# Altium integrated library National Semiconductor MiscPower.IntLib: 1552 symbols (part 10 of 43)
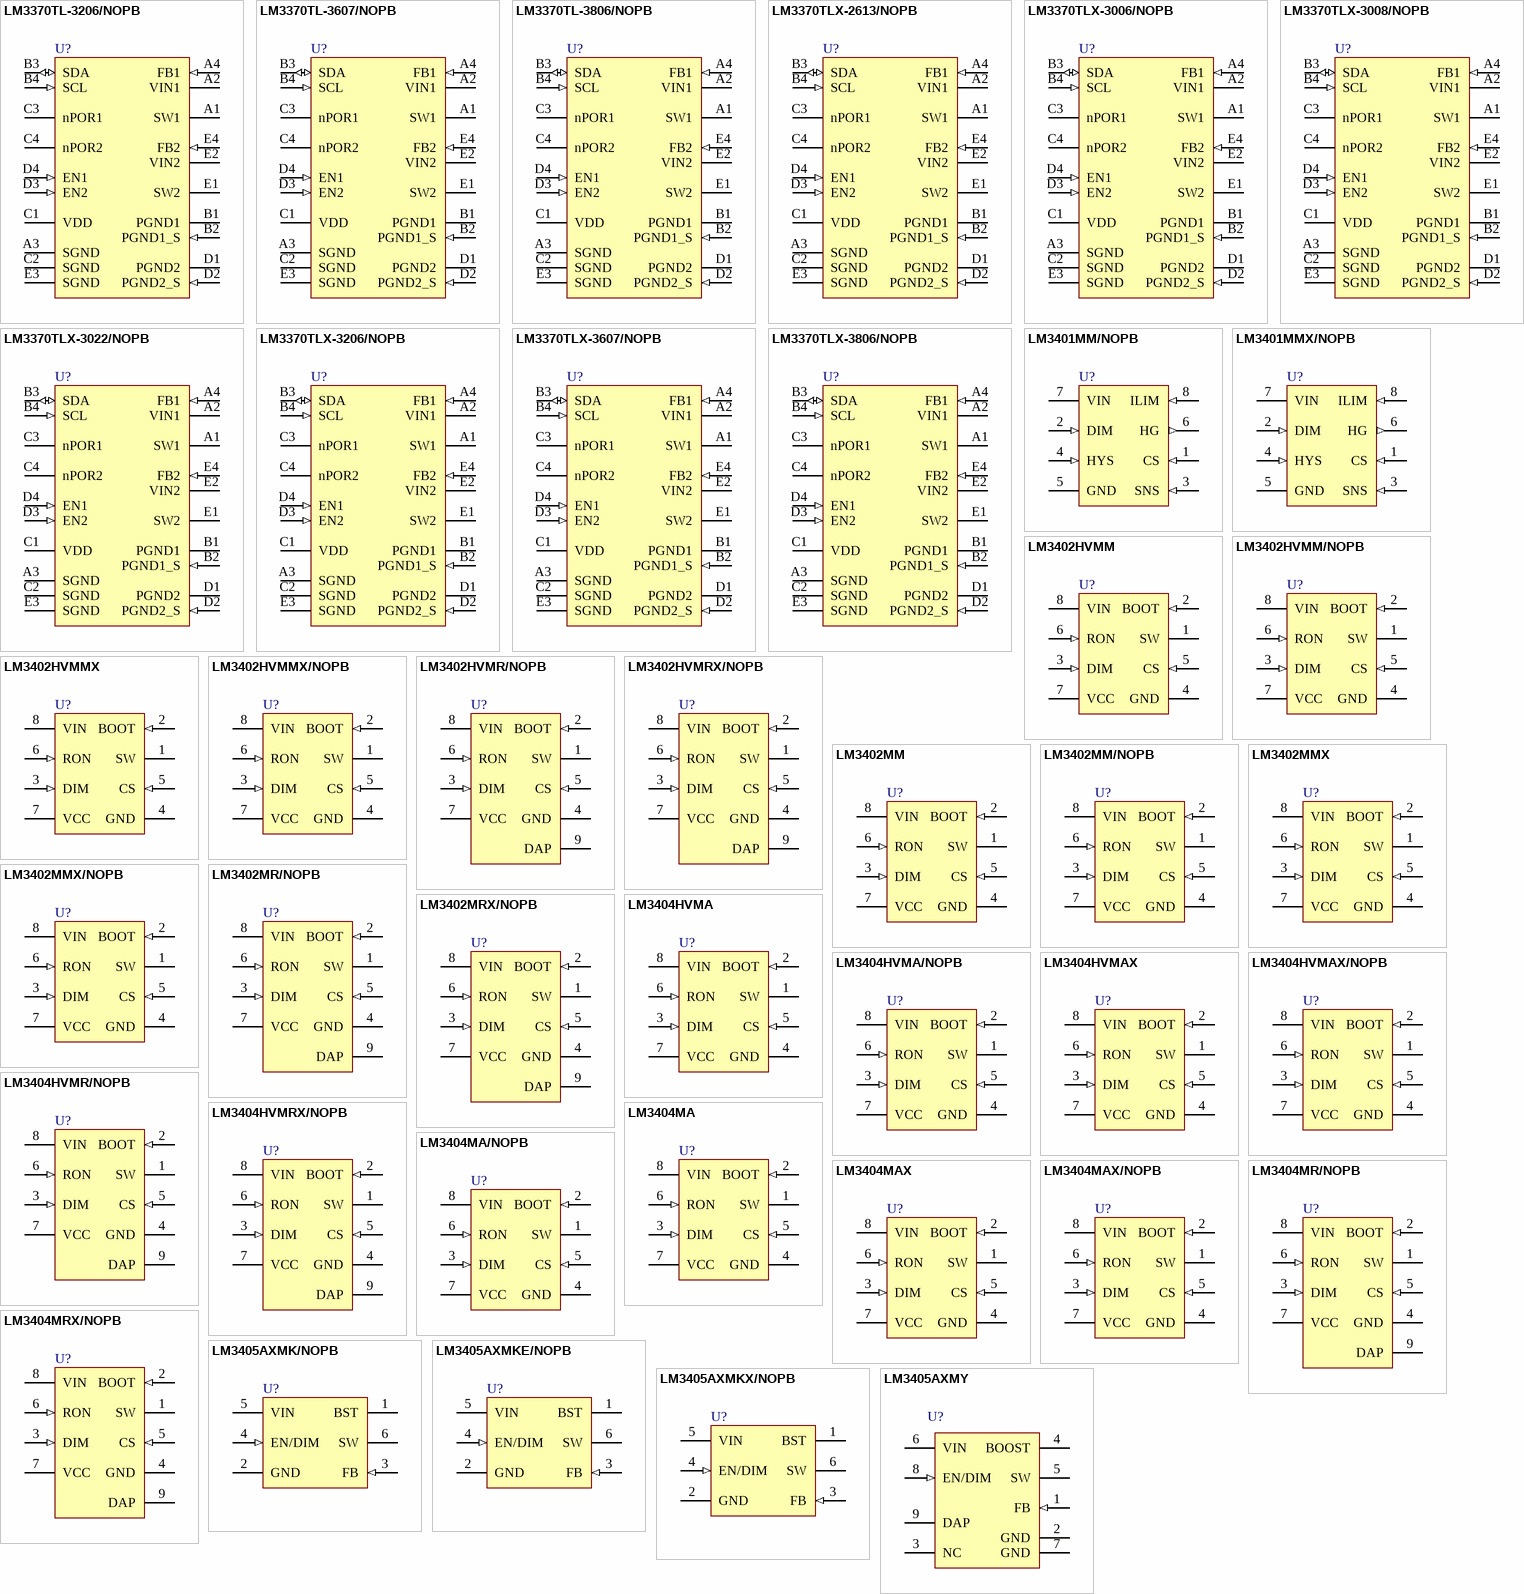
[diagram p66: symbols LM3370TL-3206/NOPB to LM3405AXMY]

## LM3402MMX
designator U?
0.5A Constant Current Buck Regulator for High Power LED Drivers, 8-pin MSOP; PartNumber: LM3402MMX; Manufacturer: National Semiconductor; PackageTopMarking: ZXTT*SNEB; PowerWise: Y; CompType: MiscPower; DatasheetVersion: Jun-2007; PackageVersion: revF, Apr-2008; PackageReference: MUA08A; PackageDescription: MINI SOIC, .118 x .118 x .034in, 8 Lead, .0256in Pitch; RoHS: N; PinCount: 8; High-Reliability: Y; Code_JEDEC: MO-187-AA; ComponentLink1Description: Manufacturer URL; ComponentLink1URL: http://www.national.com/; ComponentLink2Description: LM3402 Datasheet; ComponentLink2URL: http://www.national.com/ds/LM/LM3402.pdf; ComponentLink3Description: LM3402 Web Page; ComponentLink3URL: http://www.national.com/pf/LM/LM3402.html; ComponentLink4Description: MUA08A Package Page; ComponentLink4URL: http://www.national.com/packaging/folders/mua08a.html
footprint MUA08A_N (TSOP, 8-Leads, Body 3x3mm, Pitch 0.65mm, IPC Medium Density)
footprint MUA08A_L (TSOP, 8-Leads, Body 3x3mm, Pitch 0.65mm, IPC High Density)
footprint MUA08A_M (TSOP, 8-Leads, Body 3x3mm, Pitch 0.65mm, IPC Low Density)
pins: 1 SW (power), 2 BOOT (in), 3 DIM (in), 4 GND (power), 5 CS (in), 6 RON (in), 7 VCC (power), 8 VIN (power)

## LM3402MMX/NOPB
designator U?
0.5A Constant Current Buck Regulator for High Power LED Drivers, 8-pin MSOP, Pb-Free; PartNumber: LM3402MMX/NOPB; Manufacturer: National Semiconductor; PackageTopMarking: ZXTT*SNEB; PowerWise: Y; CompType: MiscPower; DatasheetVersion: Jun-2007; PackageVersion: revF, Apr-2008; PackageReference: MUA08A; PackageDescription: MINI SOIC, .118 x .118 x .034in, 8 Lead, .0256in Pitch; RoHS: Y; PinCount: 8; High-Reliability: Y; Code_JEDEC: MO-187-AA; ComponentLink1Description: Manufacturer URL; ComponentLink1URL: http://www.national.com/; ComponentLink2Description: LM3402 Datasheet; ComponentLink2URL: http://www.national.com/ds/LM/LM3402.pdf; ComponentLink3Description: LM3402 Web Page; ComponentLink3URL: http://www.national.com/pf/LM/LM3402.html; ComponentLink4Description: MUA08A Package Page; ComponentLink4URL: http://www.national.com/packaging/folders/mua08a.html
footprint MUA08A_N (TSOP, 8-Leads, Body 3x3mm, Pitch 0.65mm, IPC Medium Density)
footprint MUA08A_L (TSOP, 8-Leads, Body 3x3mm, Pitch 0.65mm, IPC High Density)
footprint MUA08A_M (TSOP, 8-Leads, Body 3x3mm, Pitch 0.65mm, IPC Low Density)
pins: 1 SW (power), 2 BOOT (in), 3 DIM (in), 4 GND (power), 5 CS (in), 6 RON (in), 7 VCC (power), 8 VIN (power)

## LM3402MR/NOPB
designator U?
0.5A Constant Current Buck Regulator for High Power LED Drivers, 8-pin PSOP, Pb-Free; PartNumber: LM3402MR/NOPB; Manufacturer: National Semiconductor; PackageTopMarking: NSXYTT*L3402*MR; PowerWise: N; CompType: MiscPower; High-Reliability: Y; DatasheetVersion: Jun-2007; PackageVersion: revB, Dec-2007; PackageReference: MRA08B; PackageDescription: Molded, PSOP .193 x .154 x .058in, 8 Lead, .050in Pitch, Large DAP; RoHS: Y; PinCount: 8; Code_JEDEC: MS-012-AA; ComponentLink1Description: Manufacturer URL; ComponentLink1URL: http://www.national.com/; ComponentLink2Description: LM3402 Datasheet; ComponentLink2URL: http://www.national.com/ds/LM/LM3402.pdf; ComponentLink3Description: LM3402 Web Page; ComponentLink3URL: http://www.national.com/pf/LM/LM3402.html; ComponentLink4Description: MRA08B Package Page; ComponentLink4URL: http://www.national.com/packaging/folders/mra08b.html
footprint MRA08B_N (SOIC, 8-Leads, Body 4.9x3.9mm, Pitch 1.27mm, Thermal Pad, IPC Medium Density)
footprint MRA08B_L (SOIC, 8-Leads, Body 4.9x3.9mm, Pitch 1.27mm, Thermal Pad, IPC High Density)
footprint MRA08B_M (SOIC, 8-Leads, Body 4.9x3.9mm, Pitch 1.27mm, Thermal Pad, IPC Low Density)
pins: 1 SW (power), 2 BOOT (in), 3 DIM (in), 4 GND (power), 5 CS (in), 6 RON (in), 7 VCC (power), 8 VIN (power), 9 DAP (power)

## LM3402MRX/NOPB
designator U?
0.5A Constant Current Buck Regulator for High Power LED Drivers, 8-pin PSOP, Pb-Free; PartNumber: LM3402MRX/NOPB; Manufacturer: National Semiconductor; PackageTopMarking: NSXYTT*L3402*MR; PowerWise: N; CompType: MiscPower; High-Reliability: Y; DatasheetVersion: Jun-2007; PackageVersion: revB, Dec-2007; PackageReference: MRA08B; PackageDescription: Molded, PSOP .193 x .154 x .058in, 8 Lead, .050in Pitch, Large DAP; RoHS: Y; PinCount: 8; Code_JEDEC: MS-012-AA; ComponentLink1Description: Manufacturer URL; ComponentLink1URL: http://www.national.com/; ComponentLink2Description: LM3402 Datasheet; ComponentLink2URL: http://www.national.com/ds/LM/LM3402.pdf; ComponentLink3Description: LM3402 Web Page; ComponentLink3URL: http://www.national.com/pf/LM/LM3402.html; ComponentLink4Description: MRA08B Package Page; ComponentLink4URL: http://www.national.com/packaging/folders/mra08b.html
footprint MRA08B_N (SOIC, 8-Leads, Body 4.9x3.9mm, Pitch 1.27mm, Thermal Pad, IPC Medium Density)
footprint MRA08B_L (SOIC, 8-Leads, Body 4.9x3.9mm, Pitch 1.27mm, Thermal Pad, IPC High Density)
footprint MRA08B_M (SOIC, 8-Leads, Body 4.9x3.9mm, Pitch 1.27mm, Thermal Pad, IPC Low Density)
pins: 1 SW (power), 2 BOOT (in), 3 DIM (in), 4 GND (power), 5 CS (in), 6 RON (in), 7 VCC (power), 8 VIN (power), 9 DAP (power)

## LM3404HVMA
designator U?
1.0A Constant Current Buck Regulator for High Power LED Drivers, 8-pin Narrow SOIC; PartNumber: LM3404HVMA; Manufacturer: National Semiconductor; PackageTopMarking: NSZXTT*L3404*HVMA; PowerWise: Y; CompType: MiscPower; DatasheetVersion: Feb-2010; PackageVersion: revM, May-2009; PackageReference: M08A; PackageDescription: SOIC Narrow, 4.9 x 3.9 x 1.45mm, 8 Lead, 1.27mm Pitch; RoHS: N; PinCount: 8; High-Reliability: Y; Code_JEDEC: MS-012-AA; Code_IPC: SOIC127P600-8; ComponentLink1Description: Manufacturer URL; ComponentLink1URL: http://www.national.com/; ComponentLink2Description: LM3404HV Datasheet; ComponentLink2URL: http://www.national.com/ds/LM/LM3404HV.pdf; ComponentLink3Description: LM3404HV Web Page; ComponentLink3URL: http://www.national.com/pf/LM/LM3404HV.html; ComponentLink4Description: M08A Package Page; ComponentLink4URL: http://www.national.com/packaging/folders/m08a.html
footprint M08A_N (SOIC, 8-Leads, Body 4.9x3.9mm, Pitch 1.27mm, IPC Medium Density)
footprint M08A_L (SOIC, 8-Leads, Body 4.9x3.9mm, Pitch 1.27mm, IPC High Density)
footprint M08A_M (SOIC, 8-Leads, Body 4.9x3.9mm, Pitch 1.27mm, IPC Low Density)
pins: 1 SW (power), 2 BOOT (in), 3 DIM (in), 4 GND (power), 5 CS (in), 6 RON (in), 7 VCC (power), 8 VIN (power)

## LM3404HVMA/NOPB
designator U?
1.0A Constant Current Buck Regulator for High Power LED Drivers, 8-pin Narrow SOIC, Pb-Free; PartNumber: LM3404HVMA/NOPB; Manufacturer: National Semiconductor; PackageTopMarking: NSZXTT*L3404*HVMA; PowerWise: Y; CompType: MiscPower; DatasheetVersion: Jun-2007; PackageVersion: revM, May-2009; PackageReference: M08A; PackageDescription: SOIC Narrow, 4.9 x 3.9 x 1.45mm, 8 Lead, 1.27mm Pitch; RoHS: Y; PinCount: 8; High-Reliability: Y; Code_JEDEC: MS-012-AA; Code_IPC: SOIC127P600-8; ComponentLink1Description: Manufacturer URL; ComponentLink1URL: http://www.national.com/; ComponentLink2Description: LM3404HV Datasheet; ComponentLink2URL: http://www.national.com/ds/LM/LM3404HV.pdf; ComponentLink3Description: LM3404HV Web Page; ComponentLink3URL: http://www.national.com/pf/LM/LM3404HV.html; ComponentLink4Description: M08A Package Page; ComponentLink4URL: http://www.national.com/packaging/folders/m08a.html
footprint M08A_N (SOIC, 8-Leads, Body 4.9x3.9mm, Pitch 1.27mm, IPC Medium Density)
footprint M08A_L (SOIC, 8-Leads, Body 4.9x3.9mm, Pitch 1.27mm, IPC High Density)
footprint M08A_M (SOIC, 8-Leads, Body 4.9x3.9mm, Pitch 1.27mm, IPC Low Density)
pins: 1 SW (power), 2 BOOT (in), 3 DIM (in), 4 GND (power), 5 CS (in), 6 RON (in), 7 VCC (power), 8 VIN (power)

## LM3404HVMAX
designator U?
1.0A Constant Current Buck Regulator for High Power LED Drivers, 8-pin Narrow SOIC; PartNumber: LM3404HVMAX; Manufacturer: National Semiconductor; PackageTopMarking: NSZXTT*L3404*HVMA; PowerWise: Y; CompType: MiscPower; DatasheetVersion: Jun-2007; PackageVersion: revM, May-2009; PackageReference: M08A; PackageDescription: SOIC Narrow, 4.9 x 3.9 x 1.45mm, 8 Lead, 1.27mm Pitch; RoHS: N; PinCount: 8; High-Reliability: Y; Code_JEDEC: MS-012-AA; Code_IPC: SOIC127P600-8; ComponentLink1Description: Manufacturer URL; ComponentLink1URL: http://www.national.com/; ComponentLink2Description: LM3404HV Datasheet; ComponentLink2URL: http://www.national.com/ds/LM/LM3404HV.pdf; ComponentLink3Description: LM3404HV Web Page; ComponentLink3URL: http://www.national.com/pf/LM/LM3404HV.html; ComponentLink4Description: M08A Package Page; ComponentLink4URL: http://www.national.com/packaging/folders/m08a.html
footprint M08A_N (SOIC, 8-Leads, Body 4.9x3.9mm, Pitch 1.27mm, IPC Medium Density)
footprint M08A_L (SOIC, 8-Leads, Body 4.9x3.9mm, Pitch 1.27mm, IPC High Density)
footprint M08A_M (SOIC, 8-Leads, Body 4.9x3.9mm, Pitch 1.27mm, IPC Low Density)
pins: 1 SW (power), 2 BOOT (in), 3 DIM (in), 4 GND (power), 5 CS (in), 6 RON (in), 7 VCC (power), 8 VIN (power)

## LM3404HVMAX/NOPB
designator U?
1.0A Constant Current Buck Regulator for High Power LED Drivers, 8-pin Narrow SOIC, Pb-Free; PartNumber: LM3404HVMAX/NOPB; Manufacturer: National Semiconductor; PackageTopMarking: NSZXTT*L3404*HVMA; PowerWise: Y; CompType: MiscPower; DatasheetVersion: Jun-2007; PackageVersion: revM, May-2009; PackageReference: M08A; PackageDescription: SOIC Narrow, 4.9 x 3.9 x 1.45mm, 8 Lead, 1.27mm Pitch; RoHS: Y; PinCount: 8; High-Reliability: Y; Code_JEDEC: MS-012-AA; Code_IPC: SOIC127P600-8; ComponentLink1Description: Manufacturer URL; ComponentLink1URL: http://www.national.com/; ComponentLink2Description: LM3404HV Datasheet; ComponentLink2URL: http://www.national.com/ds/LM/LM3404HV.pdf; ComponentLink3Description: LM3404HV Web Page; ComponentLink3URL: http://www.national.com/pf/LM/LM3404HV.html; ComponentLink4Description: M08A Package Page; ComponentLink4URL: http://www.national.com/packaging/folders/m08a.html
footprint M08A_N (SOIC, 8-Leads, Body 4.9x3.9mm, Pitch 1.27mm, IPC Medium Density)
footprint M08A_L (SOIC, 8-Leads, Body 4.9x3.9mm, Pitch 1.27mm, IPC High Density)
footprint M08A_M (SOIC, 8-Leads, Body 4.9x3.9mm, Pitch 1.27mm, IPC Low Density)
pins: 1 SW (power), 2 BOOT (in), 3 DIM (in), 4 GND (power), 5 CS (in), 6 RON (in), 7 VCC (power), 8 VIN (power)

## LM3404HVMR/NOPB
designator U?
1.0A Constant Current Buck Regulator for High Power LED Drivers, 8-pin PSOP, Pb-Free; PartNumber: LM3404HVMR/NOPB; Manufacturer: National Semiconductor; PackageTopMarking: NSXYTT*L3404*HVMR; PowerWise: Y; CompType: MiscPower; DatasheetVersion: Jun-2007; PackageVersion: revB, Dec-2007; PackageReference: MRA08B; PackageDescription: Molded, PSOP .193 x .154 x .058in, 8 Lead, .050in Pitch, Large DAP; RoHS: Y; PinCount: 8; High-Reliability: Y; Code_JEDEC: MS-012-AA; ComponentLink1Description: Manufacturer URL; ComponentLink1URL: http://www.national.com/; ComponentLink2Description: LM3404HV Datasheet; ComponentLink2URL: http://www.national.com/ds/LM/LM3404HV.pdf; ComponentLink3Description: LM3404HV Web Page; ComponentLink3URL: http://www.national.com/pf/LM/LM3404HV.html; ComponentLink4Description: MRA08B Package Page; ComponentLink4URL: http://www.national.com/packaging/folders/mra08b.html
footprint MRA08B_N (SOIC, 8-Leads, Body 4.9x3.9mm, Pitch 1.27mm, Thermal Pad, IPC Medium Density)
footprint MRA08B_L (SOIC, 8-Leads, Body 4.9x3.9mm, Pitch 1.27mm, Thermal Pad, IPC High Density)
footprint MRA08B_M (SOIC, 8-Leads, Body 4.9x3.9mm, Pitch 1.27mm, Thermal Pad, IPC Low Density)
pins: 1 SW (power), 2 BOOT (in), 3 DIM (in), 4 GND (power), 5 CS (in), 6 RON (in), 7 VCC (power), 8 VIN (power), 9 DAP (power)

## LM3404HVMRX/NOPB
designator U?
1.0A Constant Current Buck Regulator for High Power LED Drivers, 8-pin PSOP, Pb-Free; PartNumber: LM3404HVMRX/NOPB; Manufacturer: National Semiconductor; PackageTopMarking: NSXYTT*L3404*HVMR; PowerWise: Y; CompType: MiscPower; DatasheetVersion: Jun-2007; PackageVersion: revB, Dec-2007; PackageReference: MRA08B; PackageDescription: Molded, PSOP .193 x .154 x .058in, 8 Lead, .050in Pitch, Large DAP; RoHS: Y; PinCount: 8; High-Reliability: Y; Code_JEDEC: MS-012-AA; ComponentLink1Description: Manufacturer URL; ComponentLink1URL: http://www.national.com/; ComponentLink2Description: LM3404HV Datasheet; ComponentLink2URL: http://www.national.com/ds/LM/LM3404HV.pdf; ComponentLink3Description: LM3404HV Web Page; ComponentLink3URL: http://www.national.com/pf/LM/LM3404HV.html; ComponentLink4Description: MRA08B Package Page; ComponentLink4URL: http://www.national.com/packaging/folders/mra08b.html
footprint MRA08B_N (SOIC, 8-Leads, Body 4.9x3.9mm, Pitch 1.27mm, Thermal Pad, IPC Medium Density)
footprint MRA08B_L (SOIC, 8-Leads, Body 4.9x3.9mm, Pitch 1.27mm, Thermal Pad, IPC High Density)
footprint MRA08B_M (SOIC, 8-Leads, Body 4.9x3.9mm, Pitch 1.27mm, Thermal Pad, IPC Low Density)
pins: 1 SW (power), 2 BOOT (in), 3 DIM (in), 4 GND (power), 5 CS (in), 6 RON (in), 7 VCC (power), 8 VIN (power), 9 DAP (power)

## LM3404MA
designator U?
1.0A Constant Current Buck Regulator for High Power LED Drivers, 8-pin Narrow SOIC; PartNumber: LM3404MA; Manufacturer: National Semiconductor; PackageTopMarking: NSZXTT*L3404*MA; PowerWise: Y; CompType: MiscPower; DatasheetVersion: Feb-2010; PackageVersion: revM, May-2009; PackageReference: M08A; PackageDescription: SOIC Narrow, 4.9 x 3.9 x 1.45mm, 8 Lead, 1.27mm Pitch; RoHS: N; PinCount: 8; High-Reliability: Y; Code_JEDEC: MS-012-AA; Code_IPC: SOIC127P600-8; ComponentLink1Description: Manufacturer URL; ComponentLink1URL: http://www.national.com/; ComponentLink2Description: LM3404 Datasheet; ComponentLink2URL: http://www.national.com/ds/LM/LM3404.pdf; ComponentLink3Description: LM3404 Web Page; ComponentLink3URL: http://www.national.com/pf/LM/LM3404.html; ComponentLink4Description: M08A Package Page; ComponentLink4URL: http://www.national.com/packaging/folders/m08a.html
footprint M08A_N (SOIC, 8-Leads, Body 4.9x3.9mm, Pitch 1.27mm, IPC Medium Density)
footprint M08A_L (SOIC, 8-Leads, Body 4.9x3.9mm, Pitch 1.27mm, IPC High Density)
footprint M08A_M (SOIC, 8-Leads, Body 4.9x3.9mm, Pitch 1.27mm, IPC Low Density)
pins: 1 SW (power), 2 BOOT (in), 3 DIM (in), 4 GND (power), 5 CS (in), 6 RON (in), 7 VCC (power), 8 VIN (power)

## LM3404MA/NOPB
designator U?
1.0A Constant Current Buck Regulator for High Power LED Drivers, 8-pin Narrow SOIC, Pb-Free; PartNumber: LM3404MA/NOPB; Manufacturer: National Semiconductor; PackageTopMarking: NSZXTT*L3404*MA; PowerWise: Y; CompType: MiscPower; DatasheetVersion: Jun-2007; PackageVersion: revM, May-2009; PackageReference: M08A; PackageDescription: SOIC Narrow, 4.9 x 3.9 x 1.45mm, 8 Lead, 1.27mm Pitch; RoHS: Y; PinCount: 8; High-Reliability: Y; Code_JEDEC: MS-012-AA; Code_IPC: SOIC127P600-8; ComponentLink1Description: Manufacturer URL; ComponentLink1URL: http://www.national.com/; ComponentLink2Description: LM3404 Datasheet; ComponentLink2URL: http://www.national.com/ds/LM/LM3404.pdf; ComponentLink3Description: LM3404 Web Page; ComponentLink3URL: http://www.national.com/pf/LM/LM3404.html; ComponentLink4Description: M08A Package Page; ComponentLink4URL: http://www.national.com/packaging/folders/m08a.html
footprint M08A_N (SOIC, 8-Leads, Body 4.9x3.9mm, Pitch 1.27mm, IPC Medium Density)
footprint M08A_L (SOIC, 8-Leads, Body 4.9x3.9mm, Pitch 1.27mm, IPC High Density)
footprint M08A_M (SOIC, 8-Leads, Body 4.9x3.9mm, Pitch 1.27mm, IPC Low Density)
pins: 1 SW (power), 2 BOOT (in), 3 DIM (in), 4 GND (power), 5 CS (in), 6 RON (in), 7 VCC (power), 8 VIN (power)

## LM3404MAX
designator U?
1.0A Constant Current Buck Regulator for High Power LED Drivers, 8-pin Narrow SOIC; PartNumber: LM3404MAX; Manufacturer: National Semiconductor; PackageTopMarking: NSZXTT*L3404*MA; PowerWise: Y; CompType: MiscPower; DatasheetVersion: Jun-2007; PackageVersion: revM, May-2009; PackageReference: M08A; PackageDescription: SOIC Narrow, 4.9 x 3.9 x 1.45mm, 8 Lead, 1.27mm Pitch; RoHS: N; PinCount: 8; High-Reliability: Y; Code_JEDEC: MS-012-AA; Code_IPC: SOIC127P600-8; ComponentLink1Description: Manufacturer URL; ComponentLink1URL: http://www.national.com/; ComponentLink2Description: LM3404 Datasheet; ComponentLink2URL: http://www.national.com/ds/LM/LM3404.pdf; ComponentLink3Description: LM3404 Web Page; ComponentLink3URL: http://www.national.com/pf/LM/LM3404.html; ComponentLink4Description: M08A Package Page; ComponentLink4URL: http://www.national.com/packaging/folders/m08a.html
footprint M08A_N (SOIC, 8-Leads, Body 4.9x3.9mm, Pitch 1.27mm, IPC Medium Density)
footprint M08A_L (SOIC, 8-Leads, Body 4.9x3.9mm, Pitch 1.27mm, IPC High Density)
footprint M08A_M (SOIC, 8-Leads, Body 4.9x3.9mm, Pitch 1.27mm, IPC Low Density)
pins: 1 SW (power), 2 BOOT (in), 3 DIM (in), 4 GND (power), 5 CS (in), 6 RON (in), 7 VCC (power), 8 VIN (power)

## LM3404MAX/NOPB
designator U?
1.0A Constant Current Buck Regulator for High Power LED Drivers, 8-pin Narrow SOIC, Pb-Free; PartNumber: LM3404MAX/NOPB; Manufacturer: National Semiconductor; PackageTopMarking: NSZXTT*L3404*MA; PowerWise: Y; CompType: MiscPower; DatasheetVersion: Jun-2007; PackageVersion: revM, May-2009; PackageReference: M08A; PackageDescription: SOIC Narrow, 4.9 x 3.9 x 1.45mm, 8 Lead, 1.27mm Pitch; RoHS: Y; PinCount: 8; High-Reliability: Y; Code_JEDEC: MS-012-AA; Code_IPC: SOIC127P600-8; ComponentLink1Description: Manufacturer URL; ComponentLink1URL: http://www.national.com/; ComponentLink2Description: LM3404 Datasheet; ComponentLink2URL: http://www.national.com/ds/LM/LM3404.pdf; ComponentLink3Description: LM3404 Web Page; ComponentLink3URL: http://www.national.com/pf/LM/LM3404.html; ComponentLink4Description: M08A Package Page; ComponentLink4URL: http://www.national.com/packaging/folders/m08a.html
footprint M08A_N (SOIC, 8-Leads, Body 4.9x3.9mm, Pitch 1.27mm, IPC Medium Density)
footprint M08A_L (SOIC, 8-Leads, Body 4.9x3.9mm, Pitch 1.27mm, IPC High Density)
footprint M08A_M (SOIC, 8-Leads, Body 4.9x3.9mm, Pitch 1.27mm, IPC Low Density)
pins: 1 SW (power), 2 BOOT (in), 3 DIM (in), 4 GND (power), 5 CS (in), 6 RON (in), 7 VCC (power), 8 VIN (power)

## LM3404MR/NOPB
designator U?
1.0A Constant Current Buck Regulator for High Power LED Drivers, 8-pin PSOP, Pb-Free; PartNumber: LM3404MR/NOPB; Manufacturer: National Semiconductor; PackageTopMarking: NSXYTT*L3404*MR; PowerWise: Y; CompType: MiscPower; DatasheetVersion: Jun-2007; PackageVersion: revB, Dec-2007; PackageReference: MRA08B; PackageDescription: Molded, PSOP .193 x .154 x .058in, 8 Lead, .050in Pitch, Large DAP; RoHS: Y; PinCount: 8; High-Reliability: Y; Code_JEDEC: MS-012-AA; ComponentLink1Description: Manufacturer URL; ComponentLink1URL: http://www.national.com/; ComponentLink2Description: LM3404 Datasheet; ComponentLink2URL: http://www.national.com/ds/LM/LM3404.pdf; ComponentLink3Description: LM3404 Web Page; ComponentLink3URL: http://www.national.com/pf/LM/LM3404.html; ComponentLink4Description: MRA08B Package Page; ComponentLink4URL: http://www.national.com/packaging/folders/mra08b.html
footprint MRA08B_N (SOIC, 8-Leads, Body 4.9x3.9mm, Pitch 1.27mm, Thermal Pad, IPC Medium Density)
footprint MRA08B_L (SOIC, 8-Leads, Body 4.9x3.9mm, Pitch 1.27mm, Thermal Pad, IPC High Density)
footprint MRA08B_M (SOIC, 8-Leads, Body 4.9x3.9mm, Pitch 1.27mm, Thermal Pad, IPC Low Density)
pins: 1 SW (power), 2 BOOT (in), 3 DIM (in), 4 GND (power), 5 CS (in), 6 RON (in), 7 VCC (power), 8 VIN (power), 9 DAP (power)

## LM3404MRX/NOPB
designator U?
1.0A Constant Current Buck Regulator for High Power LED Drivers, 8-pin PSOP, Pb-Free; PartNumber: LM3404MRX/NOPB; Manufacturer: National Semiconductor; PackageTopMarking: NSXYTT*L3404*MR; PowerWise: Y; CompType: MiscPower; DatasheetVersion: Jun-2007; PackageVersion: revB, Dec-2007; PackageReference: MRA08B; PackageDescription: Molded, PSOP .193 x .154 x .058in, 8 Lead, .050in Pitch, Large DAP; RoHS: Y; PinCount: 8; High-Reliability: Y; Code_JEDEC: MS-012-AA; ComponentLink1Description: Manufacturer URL; ComponentLink1URL: http://www.national.com/; ComponentLink2Description: LM3404 Datasheet; ComponentLink2URL: http://www.national.com/ds/LM/LM3404.pdf; ComponentLink3Description: LM3404 Web Page; ComponentLink3URL: http://www.national.com/pf/LM/LM3404.html; ComponentLink4Description: MRA08B Package Page; ComponentLink4URL: http://www.national.com/packaging/folders/mra08b.html
footprint MRA08B_N (SOIC, 8-Leads, Body 4.9x3.9mm, Pitch 1.27mm, Thermal Pad, IPC Medium Density)
footprint MRA08B_L (SOIC, 8-Leads, Body 4.9x3.9mm, Pitch 1.27mm, Thermal Pad, IPC High Density)
footprint MRA08B_M (SOIC, 8-Leads, Body 4.9x3.9mm, Pitch 1.27mm, Thermal Pad, IPC Low Density)
pins: 1 SW (power), 2 BOOT (in), 3 DIM (in), 4 GND (power), 5 CS (in), 6 RON (in), 7 VCC (power), 8 VIN (power), 9 DAP (power)

## LM3405AXMK/NOPB
designator U?
1.6MHz, 1A Constant Current Buck LED Driver with Internal Compensation, 6-pin Tiny SOT23, Pb-Free; PartNumber: LM3405AXMK/NOPB; Manufacturer: National Semiconductor; PackageTopMarking: SSEB*XTT; PowerWise: Y; CompType: MiscPower; DatasheetVersion: Oct-2008; PackageVersion: revE, Nov-2008; PackageReference: MK06A; PackageDescription: Molded TSOT, 2.97 x 1.65 x 0.87mm Body, 6 Lead, 0.95mm Pitch; RoHS: Y; PinCount: 6; High-Reliability: Y; Code_JEDEC: MO-193-AA; Code_IPC: SOT26A-6; ComponentLink1Description: Manufacturer URL; ComponentLink1URL: http://www.national.com/; ComponentLink2Description: LM3405A Datasheet; ComponentLink2URL: http://www.national.com/ds/LM/LM3405A.pdf; ComponentLink3Description: LM3405A Web Page; ComponentLink3URL: http://www.national.com/pf/LM/LM3405A.html; ComponentLink4Description: MK06A Package Page; ComponentLink4URL: http://www.national.com/packaging/folders/mk06a.html
footprint MK06A_N (SOT23, 6-Leads, Body 3.0x1.7mm, Pitch 0.95mm, Lead Span 2.9mm, IPC Medium Density)
footprint MK06A_L (SOT23, 6-Leads, Body 3.0x1.7mm, Pitch 0.95mm, Lead Span 2.9mm, IPC High Density)
footprint MK06A_M (SOT23, 6-Leads, Body 3.0x1.7mm, Pitch 0.95mm, Lead Span 2.9mm, IPC Low Density)
pins: 1 BST, 2 GND (power), 3 FB (in), 4 EN/DIM (in), 5 VIN (power), 6 SW (power)

## LM3405AXMKE/NOPB
designator U?
1.6MHz, 1A Constant Current Buck LED Driver with Internal Compensation, 6-pin Tiny SOT23, Pb-Free; PartNumber: LM3405AXMKE/NOPB; Manufacturer: National Semiconductor; PackageTopMarking: SSEB*XTT; PowerWise: Y; CompType: MiscPower; DatasheetVersion: Oct-2008; PackageVersion: revE, Nov-2008; PackageReference: MK06A; PackageDescription: Molded TSOT, 2.97 x 1.65 x 0.87mm Body, 6 Lead, 0.95mm Pitch; RoHS: Y; PinCount: 6; High-Reliability: Y; Code_JEDEC: MO-193-AA; Code_IPC: SOT26A-6; ComponentLink1Description: Manufacturer URL; ComponentLink1URL: http://www.national.com/; ComponentLink2Description: LM3405A Datasheet; ComponentLink2URL: http://www.national.com/ds/LM/LM3405A.pdf; ComponentLink3Description: LM3405A Web Page; ComponentLink3URL: http://www.national.com/pf/LM/LM3405A.html; ComponentLink4Description: MK06A Package Page; ComponentLink4URL: http://www.national.com/packaging/folders/mk06a.html
footprint MK06A_N (SOT23, 6-Leads, Body 3.0x1.7mm, Pitch 0.95mm, Lead Span 2.9mm, IPC Medium Density)
footprint MK06A_L (SOT23, 6-Leads, Body 3.0x1.7mm, Pitch 0.95mm, Lead Span 2.9mm, IPC High Density)
footprint MK06A_M (SOT23, 6-Leads, Body 3.0x1.7mm, Pitch 0.95mm, Lead Span 2.9mm, IPC Low Density)
pins: 1 BST, 2 GND (power), 3 FB (in), 4 EN/DIM (in), 5 VIN (power), 6 SW (power)

## LM3405AXMKX/NOPB
designator U?
1.6MHz, 1A Constant Current Buck LED Driver with Internal Compensation, 6-pin Tiny SOT23, Pb-Free; PartNumber: LM3405AXMKX/NOPB; Manufacturer: National Semiconductor; PackageTopMarking: SSEB*XTT; PowerWise: Y; CompType: MiscPower; DatasheetVersion: Oct-2008; PackageVersion: revE, Nov-2008; PackageReference: MK06A; PackageDescription: Molded TSOT, 2.97 x 1.65 x 0.87mm Body, 6 Lead, 0.95mm Pitch; RoHS: Y; PinCount: 6; High-Reliability: Y; Code_JEDEC: MO-193-AA; Code_IPC: SOT26A-6; ComponentLink1Description: Manufacturer URL; ComponentLink1URL: http://www.national.com/; ComponentLink2Description: LM3405A Datasheet; ComponentLink2URL: http://www.national.com/ds/LM/LM3405A.pdf; ComponentLink3Description: LM3405A Web Page; ComponentLink3URL: http://www.national.com/pf/LM/LM3405A.html; ComponentLink4Description: MK06A Package Page; ComponentLink4URL: http://www.national.com/packaging/folders/mk06a.html
footprint MK06A_N (SOT23, 6-Leads, Body 3.0x1.7mm, Pitch 0.95mm, Lead Span 2.9mm, IPC Medium Density)
footprint MK06A_L (SOT23, 6-Leads, Body 3.0x1.7mm, Pitch 0.95mm, Lead Span 2.9mm, IPC High Density)
footprint MK06A_M (SOT23, 6-Leads, Body 3.0x1.7mm, Pitch 0.95mm, Lead Span 2.9mm, IPC Low Density)
pins: 1 BST, 2 GND (power), 3 FB (in), 4 EN/DIM (in), 5 VIN (power), 6 SW (power)

## LM3405AXMY
designator U?
1.6MHz, 1A Constant Current Buck LED Driver with Internal Compensation, 8-pin eMSOP; PartNumber: LM3405AXMY; Manufacturer: National Semiconductor; PackageTopMarking: ZXTT*SVSA; PowerWise: N; CompType: MiscPower; High-Reliability: Y; DatasheetVersion: Oct-2008; PackageVersion: revA, Nov-2003; PackageReference: MUY08A; PackageDescription: Molded Mini-SO, Exposed Pad, .118 x .118 x .034in Body, 8 Lead, .0256in Pitch; RoHS: Y; PinCount: 8; Code_JEDEC: MO-187-AA; ComponentLink1Description: Manufacturer URL; ComponentLink1URL: http://www.national.com/; ComponentLink2Description: LM3405A Datasheet; ComponentLink2URL: http://www.national.com/ds/LM/LM3405A.pdf; ComponentLink3Description: LM3405A Web Page; ComponentLink3URL: http://www.national.com/pf/LM/LM3405A.html; ComponentLink4Description: MUY08A Package Page; ComponentLink4URL: http://www.national.com/packaging/folders/muy08a.html
footprint MUY08A_N (TSOP, 8-Leads, Body 3x3mm, Pitch 0.65mm, Thermal Pad, IPC Medium Density)
footprint MUY08A_L (TSOP, 8-Leads, Body 3x3mm, Pitch 0.65mm, Thermal Pad, IPC High Density)
footprint MUY08A_M (TSOP, 8-Leads, Body 3x3mm, Pitch 0.65mm, Thermal Pad, IPC Low Density)
pins: 1 FB (in), 2 GND (power), 3 NC, 4 BOOST, 5 SW (power), 6 VIN (power), 7 GND (power), 8 EN/DIM (in), 9 DAP (power)

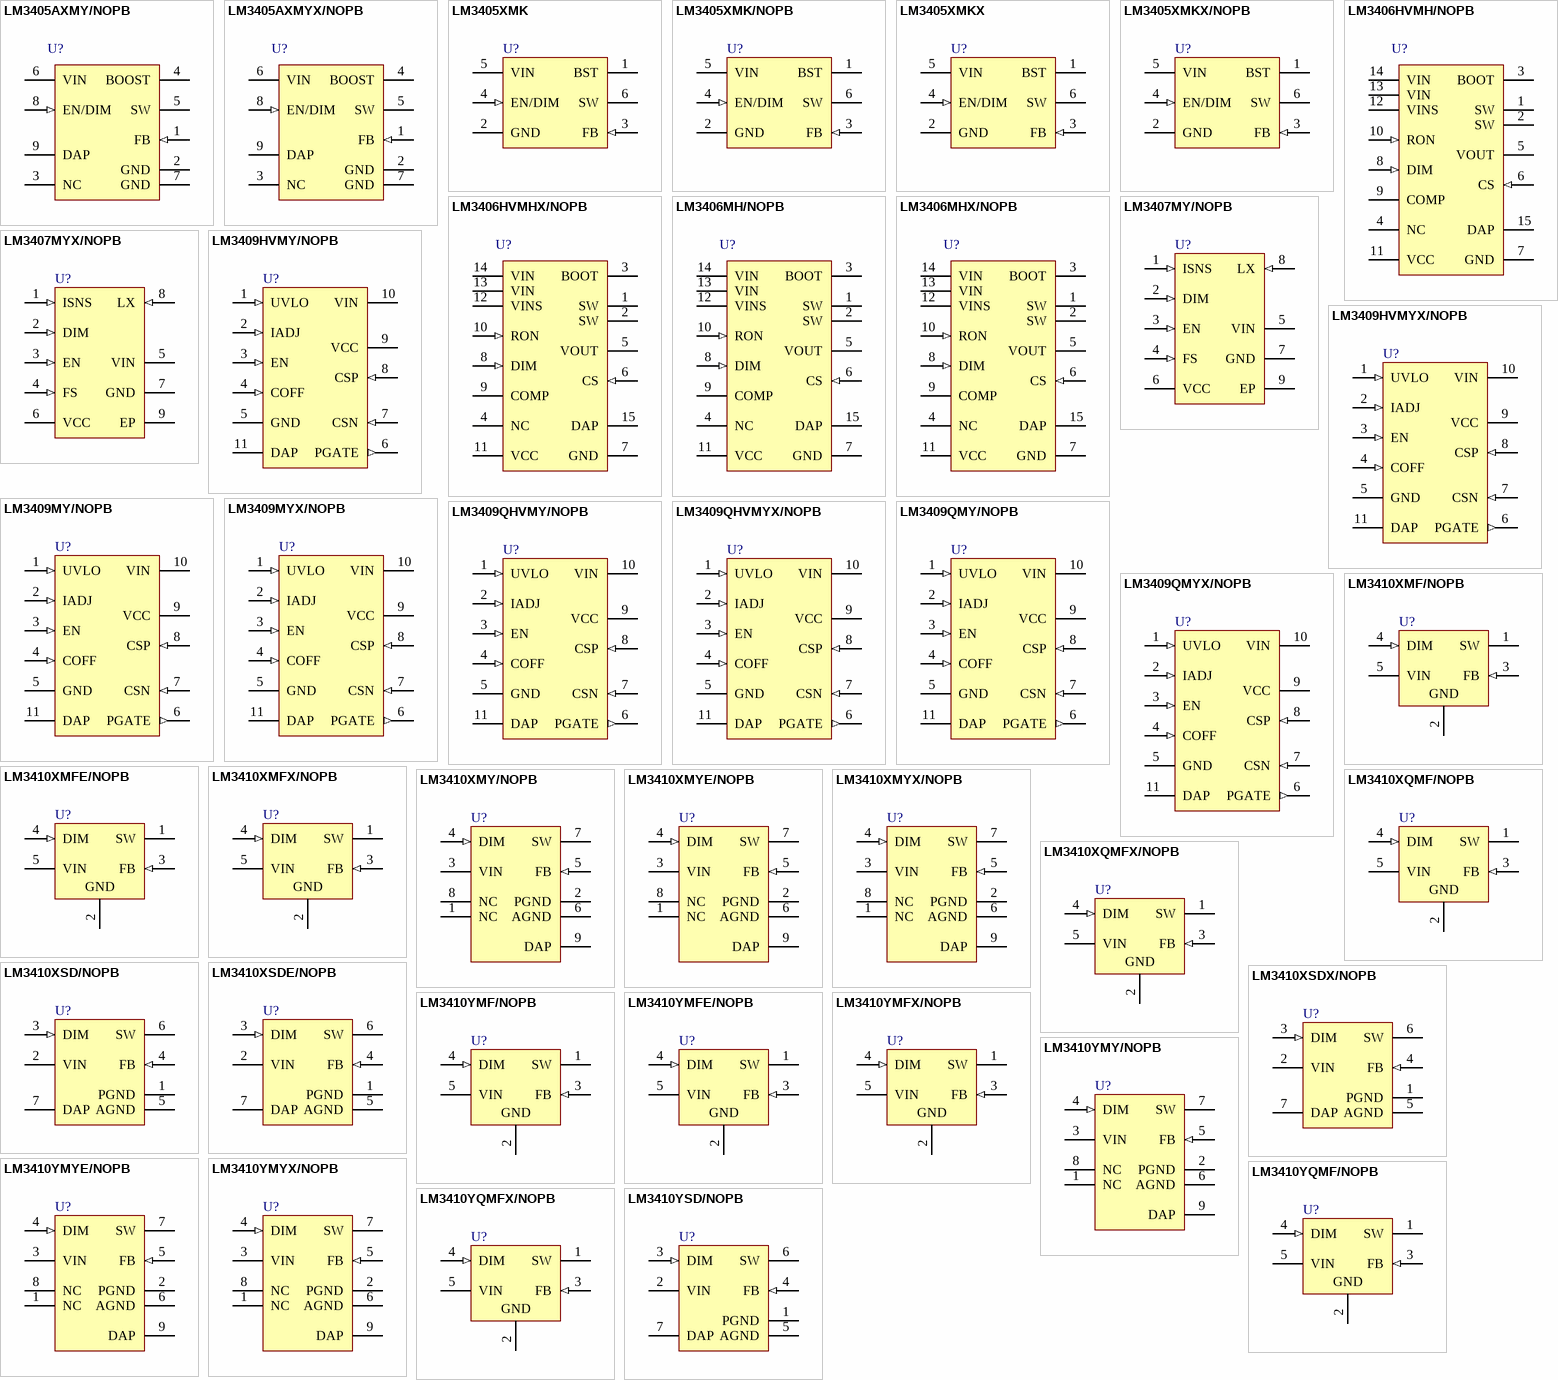
[diagram p11: symbols LM3405AXMY/NOPB to LM3410YSD/NOPB]

## LM3405AXMY/NOPB
designator U?
1.6MHz, 1A Constant Current Buck LED Driver with Internal Compensation, 8-pin eMSOP, Pb-Free; PartNumber: LM3405AXMY/NOPB; Manufacturer: National Semiconductor; PackageTopMarking: ZXTT*SVSA; PowerWise: N; CompType: MiscPower; High-Reliability: Y; DatasheetVersion: Oct-2008; PackageVersion: revA, Nov-2003; PackageReference: MUY08A; PackageDescription: Molded Mini-SO, Exposed Pad, .118 x .118 x .034in Body, 8 Lead, .0256in Pitch; RoHS: Y; PinCount: 8; Code_JEDEC: MO-187-AA; ComponentLink1Description: Manufacturer URL; ComponentLink1URL: http://www.national.com/; ComponentLink2Description: LM3405A Datasheet; ComponentLink2URL: http://www.national.com/ds/LM/LM3405A.pdf; ComponentLink3Description: LM3405A Web Page; ComponentLink3URL: http://www.national.com/pf/LM/LM3405A.html; ComponentLink4Description: MUY08A Package Page; ComponentLink4URL: http://www.national.com/packaging/folders/muy08a.html
footprint MUY08A_N (TSOP, 8-Leads, Body 3x3mm, Pitch 0.65mm, Thermal Pad, IPC Medium Density)
footprint MUY08A_L (TSOP, 8-Leads, Body 3x3mm, Pitch 0.65mm, Thermal Pad, IPC High Density)
footprint MUY08A_M (TSOP, 8-Leads, Body 3x3mm, Pitch 0.65mm, Thermal Pad, IPC Low Density)
pins: 1 FB (in), 2 GND (power), 3 NC, 4 BOOST, 5 SW (power), 6 VIN (power), 7 GND (power), 8 EN/DIM (in), 9 DAP (power)

## LM3405AXMYX/NOPB
designator U?
1.6MHz, 1A Constant Current Buck LED Driver with Internal Compensation, 8-pin eMSOP, Pb-Free; PartNumber: LM3405AXMYX/NOPB; Manufacturer: National Semiconductor; PackageTopMarking: ZXTT*SVSA; PowerWise: N; CompType: MiscPower; High-Reliability: Y; DatasheetVersion: Oct-2008; PackageVersion: revA, Nov-2003; PackageReference: MUY08A; PackageDescription: Molded Mini-SO, Exposed Pad, .118 x .118 x .034in Body, 8 Lead, .0256in Pitch; RoHS: Y; PinCount: 8; Code_JEDEC: MO-187-AA; ComponentLink1Description: Manufacturer URL; ComponentLink1URL: http://www.national.com/; ComponentLink2Description: LM3405A Datasheet; ComponentLink2URL: http://www.national.com/ds/LM/LM3405A.pdf; ComponentLink3Description: LM3405A Web Page; ComponentLink3URL: http://www.national.com/pf/LM/LM3405A.html; ComponentLink4Description: MUY08A Package Page; ComponentLink4URL: http://www.national.com/packaging/folders/muy08a.html
footprint MUY08A_N (TSOP, 8-Leads, Body 3x3mm, Pitch 0.65mm, Thermal Pad, IPC Medium Density)
footprint MUY08A_L (TSOP, 8-Leads, Body 3x3mm, Pitch 0.65mm, Thermal Pad, IPC High Density)
footprint MUY08A_M (TSOP, 8-Leads, Body 3x3mm, Pitch 0.65mm, Thermal Pad, IPC Low Density)
pins: 1 FB (in), 2 GND (power), 3 NC, 4 BOOST, 5 SW (power), 6 VIN (power), 7 GND (power), 8 EN/DIM (in), 9 DAP (power)

## LM3405XMK
designator U?
1.6MHz 1A Constant Current Buck Regulator for Powering LEDs, 6-pin Tiny SOT23; PartNumber: LM3405XMK; Manufacturer: National Semiconductor; PackageTopMarking: SPNB*XTT; PowerWise: Y; CompType: MiscPower; DatasheetVersion: Feb-2007; PackageVersion: revE, Nov-2008; PackageReference: MK06A; PackageDescription: Molded TSOT, 2.97 x 1.65 x 0.87mm Body, 6 Lead, 0.95mm Pitch; RoHS: N; PinCount: 6; High-Reliability: Y; Code_JEDEC: MO-193-AA; Code_IPC: SOT26A-6; ComponentLink1Description: Manufacturer URL; ComponentLink1URL: http://www.national.com/; ComponentLink2Description: LM3405 Datasheet; ComponentLink2URL: http://www.national.com/ds/LM/LM3405.pdf; ComponentLink3Description: LM3405 Web Page; ComponentLink3URL: http://www.national.com/pf/LM/LM3405.html; ComponentLink4Description: MK06A Package Page; ComponentLink4URL: http://www.national.com/packaging/folders/mk06a.html
footprint MK06A_N (SOT23, 6-Leads, Body 3.0x1.7mm, Pitch 0.95mm, Lead Span 2.9mm, IPC Medium Density)
footprint MK06A_L (SOT23, 6-Leads, Body 3.0x1.7mm, Pitch 0.95mm, Lead Span 2.9mm, IPC High Density)
footprint MK06A_M (SOT23, 6-Leads, Body 3.0x1.7mm, Pitch 0.95mm, Lead Span 2.9mm, IPC Low Density)
pins: 1 BST, 2 GND (power), 3 FB (in), 4 EN/DIM (in), 5 VIN (power), 6 SW (power)

## LM3405XMK/NOPB
designator U?
1.6MHz 1A Constant Current Buck Regulator for Powering LEDs, 6-pin Tiny SOT23, Pb-Free; PartNumber: LM3405XMK/NOPB; Manufacturer: National Semiconductor; PackageTopMarking: SPNB*XTT; PowerWise: Y; CompType: MiscPower; DatasheetVersion: Feb-2007; PackageVersion: revE, Nov-2008; PackageReference: MK06A; PackageDescription: Molded TSOT, 2.97 x 1.65 x 0.87mm Body, 6 Lead, 0.95mm Pitch; RoHS: Y; PinCount: 6; High-Reliability: Y; Code_JEDEC: MO-193-AA; Code_IPC: SOT26A-6; ComponentLink1Description: Manufacturer URL; ComponentLink1URL: http://www.national.com/; ComponentLink2Description: LM3405 Datasheet; ComponentLink2URL: http://www.national.com/ds/LM/LM3405.pdf; ComponentLink3Description: LM3405 Web Page; ComponentLink3URL: http://www.national.com/pf/LM/LM3405.html; ComponentLink4Description: MK06A Package Page; ComponentLink4URL: http://www.national.com/packaging/folders/mk06a.html
footprint MK06A_N (SOT23, 6-Leads, Body 3.0x1.7mm, Pitch 0.95mm, Lead Span 2.9mm, IPC Medium Density)
footprint MK06A_L (SOT23, 6-Leads, Body 3.0x1.7mm, Pitch 0.95mm, Lead Span 2.9mm, IPC High Density)
footprint MK06A_M (SOT23, 6-Leads, Body 3.0x1.7mm, Pitch 0.95mm, Lead Span 2.9mm, IPC Low Density)
pins: 1 BST, 2 GND (power), 3 FB (in), 4 EN/DIM (in), 5 VIN (power), 6 SW (power)

## LM3405XMKX
designator U?
1.6MHz 1A Constant Current Buck Regulator for Powering LEDs, 6-pin Tiny SOT23; PartNumber: LM3405XMKX; Manufacturer: National Semiconductor; PackageTopMarking: SPNB*XTT; PowerWise: Y; CompType: MiscPower; DatasheetVersion: Feb-2007; PackageVersion: revE, Nov-2008; PackageReference: MK06A; PackageDescription: Molded TSOT, 2.97 x 1.65 x 0.87mm Body, 6 Lead, 0.95mm Pitch; RoHS: N; PinCount: 6; High-Reliability: Y; Code_JEDEC: MO-193-AA; Code_IPC: SOT26A-6; ComponentLink1Description: Manufacturer URL; ComponentLink1URL: http://www.national.com/; ComponentLink2Description: LM3405 Datasheet; ComponentLink2URL: http://www.national.com/ds/LM/LM3405.pdf; ComponentLink3Description: LM3405 Web Page; ComponentLink3URL: http://www.national.com/pf/LM/LM3405.html; ComponentLink4Description: MK06A Package Page; ComponentLink4URL: http://www.national.com/packaging/folders/mk06a.html
footprint MK06A_N (SOT23, 6-Leads, Body 3.0x1.7mm, Pitch 0.95mm, Lead Span 2.9mm, IPC Medium Density)
footprint MK06A_L (SOT23, 6-Leads, Body 3.0x1.7mm, Pitch 0.95mm, Lead Span 2.9mm, IPC High Density)
footprint MK06A_M (SOT23, 6-Leads, Body 3.0x1.7mm, Pitch 0.95mm, Lead Span 2.9mm, IPC Low Density)
pins: 1 BST, 2 GND (power), 3 FB (in), 4 EN/DIM (in), 5 VIN (power), 6 SW (power)

## LM3405XMKX/NOPB
designator U?
1.6MHz 1A Constant Current Buck Regulator for Powering LEDs, 6-pin Tiny SOT23, Pb-Free; PartNumber: LM3405XMKX/NOPB; Manufacturer: National Semiconductor; PackageTopMarking: SPNB*XTT; PowerWise: Y; CompType: MiscPower; DatasheetVersion: Feb-2007; PackageVersion: revE, Nov-2008; PackageReference: MK06A; PackageDescription: Molded TSOT, 2.97 x 1.65 x 0.87mm Body, 6 Lead, 0.95mm Pitch; RoHS: Y; PinCount: 6; High-Reliability: Y; Code_JEDEC: MO-193-AA; Code_IPC: SOT26A-6; ComponentLink1Description: Manufacturer URL; ComponentLink1URL: http://www.national.com/; ComponentLink2Description: LM3405 Datasheet; ComponentLink2URL: http://www.national.com/ds/LM/LM3405.pdf; ComponentLink3Description: LM3405 Web Page; ComponentLink3URL: http://www.national.com/pf/LM/LM3405.html; ComponentLink4Description: MK06A Package Page; ComponentLink4URL: http://www.national.com/packaging/folders/mk06a.html
footprint MK06A_N (SOT23, 6-Leads, Body 3.0x1.7mm, Pitch 0.95mm, Lead Span 2.9mm, IPC Medium Density)
footprint MK06A_L (SOT23, 6-Leads, Body 3.0x1.7mm, Pitch 0.95mm, Lead Span 2.9mm, IPC High Density)
footprint MK06A_M (SOT23, 6-Leads, Body 3.0x1.7mm, Pitch 0.95mm, Lead Span 2.9mm, IPC Low Density)
pins: 1 BST, 2 GND (power), 3 FB (in), 4 EN/DIM (in), 5 VIN (power), 6 SW (power)

## LM3406HVMH/NOPB
designator U?
1.5A Constant Current Buck Regulator for Driving High Power LEDs, 14-pin TSSOP-EP, Pb-Free; PartNumber: LM3406HVMH/NOPB; Manufacturer: National Semiconductor; PackageTopMarking: NSUZXYTT*LM3406*HVMH; PowerWise: Y; CompType: MiscPower; DatasheetVersion: Sep-2008; PackageVersion: revA, Feb-2003; PackageReference: MXA14A; PackageDescription: Molded TSSOP, JEDEC, Exposed Pad, 5.0 x 4.4 x 0.9mm Body, 14 Lead, 0.65mm Pitch; RoHS: Y; PinCount: 14; High-Reliability: Y; Code_JEDEC: MO-153-ABT-1; ComponentLink1Description: Manufacturer URL; ComponentLink1URL: http://www.national.com/; ComponentLink2Description: LM3406HV Datasheet; ComponentLink2URL: http://www.national.com/ds/LM/LM3406HV.pdf; ComponentLink3Description: LM3406HV Web Page; ComponentLink3URL: http://www.national.com/pf/LM/LM3406HV.html; ComponentLink4Description: MXA14A Package Page; ComponentLink4URL: http://www.national.com/packaging/folders/mxa14a.html
footprint MXA14A_N (TSOP, 14-Leads, Body 5x4.4mm, Pitch 0.65mm, Thermal Pad, IPC Medium Density)
footprint MXA14A_L (TSOP, 14-Leads, Body 5x4.4mm, Pitch 0.65mm, Thermal Pad, IPC High Density)
footprint MXA14A_M (TSOP, 14-Leads, Body 5x4.4mm, Pitch 0.65mm, Thermal Pad, IPC Low Density)
pins: 1 SW (power), 2 SW (power), 3 BOOT, 4 NC, 5 VOUT, 6 CS (in), 7 GND (power), 8 DIM (in), 9 COMP, 10 RON (in), 11 VCC (power), 12 VINS (power), 13 VIN (power), 14 VIN (power), 15 DAP (power)

## LM3406HVMHX/NOPB
designator U?
1.5A Constant Current Buck Regulator for Driving High Power LEDs, 14-pin TSSOP-EP, Pb-Free; PartNumber: LM3406HVMHX/NOPB; Manufacturer: National Semiconductor; PackageTopMarking: NSUZXYTT*LM3406*HVMH; PowerWise: Y; CompType: MiscPower; DatasheetVersion: Sep-2008; PackageVersion: revA, Feb-2003; PackageReference: MXA14A; PackageDescription: Molded TSSOP, JEDEC, Exposed Pad, 5.0 x 4.4 x 0.9mm Body, 14 Lead, 0.65mm Pitch; RoHS: Y; PinCount: 14; High-Reliability: Y; Code_JEDEC: MO-153-ABT-1; ComponentLink1Description: Manufacturer URL; ComponentLink1URL: http://www.national.com/; ComponentLink2Description: LM3406HV Datasheet; ComponentLink2URL: http://www.national.com/ds/LM/LM3406HV.pdf; ComponentLink3Description: LM3406HV Web Page; ComponentLink3URL: http://www.national.com/pf/LM/LM3406HV.html; ComponentLink4Description: MXA14A Package Page; ComponentLink4URL: http://www.national.com/packaging/folders/mxa14a.html
footprint MXA14A_N (TSOP, 14-Leads, Body 5x4.4mm, Pitch 0.65mm, Thermal Pad, IPC Medium Density)
footprint MXA14A_L (TSOP, 14-Leads, Body 5x4.4mm, Pitch 0.65mm, Thermal Pad, IPC High Density)
footprint MXA14A_M (TSOP, 14-Leads, Body 5x4.4mm, Pitch 0.65mm, Thermal Pad, IPC Low Density)
pins: 1 SW (power), 2 SW (power), 3 BOOT, 4 NC, 5 VOUT, 6 CS (in), 7 GND (power), 8 DIM (in), 9 COMP, 10 RON (in), 11 VCC (power), 12 VINS (power), 13 VIN (power), 14 VIN (power), 15 DAP (power)

## LM3406MH/NOPB
designator U?
1.5A Constant Current Buck Regulator for Driving High Power LEDs, 14-pin TSSOP-EP, Pb-Free; PartNumber: LM3406MH/NOPB; Manufacturer: National Semiconductor; PackageTopMarking: NSUZXYTT*LM3406*MH; PowerWise: Y; CompType: MiscPower; DatasheetVersion: Sep-2008; PackageVersion: revA, Feb-2003; PackageReference: MXA14A; PackageDescription: Molded TSSOP, JEDEC, Exposed Pad, 5.0 x 4.4 x 0.9mm Body, 14 Lead, 0.65mm Pitch; RoHS: Y; PinCount: 14; High-Reliability: Y; Code_JEDEC: MO-153-ABT-1; ComponentLink1Description: Manufacturer URL; ComponentLink1URL: http://www.national.com/; ComponentLink2Description: LM3406 Datasheet; ComponentLink2URL: http://www.national.com/ds/LM/LM3406.pdf; ComponentLink3Description: LM3406 Web Page; ComponentLink3URL: http://www.national.com/pf/LM/LM3406.html; ComponentLink4Description: MXA14A Package Page; ComponentLink4URL: http://www.national.com/packaging/folders/mxa14a.html
footprint MXA14A_N (TSOP, 14-Leads, Body 5x4.4mm, Pitch 0.65mm, Thermal Pad, IPC Medium Density)
footprint MXA14A_L (TSOP, 14-Leads, Body 5x4.4mm, Pitch 0.65mm, Thermal Pad, IPC High Density)
footprint MXA14A_M (TSOP, 14-Leads, Body 5x4.4mm, Pitch 0.65mm, Thermal Pad, IPC Low Density)
pins: 1 SW (power), 2 SW (power), 3 BOOT, 4 NC, 5 VOUT, 6 CS (in), 7 GND (power), 8 DIM (in), 9 COMP, 10 RON (in), 11 VCC (power), 12 VINS (power), 13 VIN (power), 14 VIN (power), 15 DAP (power)

## LM3406MHX/NOPB
designator U?
1.5A Constant Current Buck Regulator for Driving High Power LEDs, 14-pin TSSOP-EP, Pb-Free; PartNumber: LM3406MHX/NOPB; Manufacturer: National Semiconductor; PackageTopMarking: NSUZXYTT*LM3406*MH; PowerWise: Y; CompType: MiscPower; DatasheetVersion: Sep-2008; PackageVersion: revA, Feb-2003; PackageReference: MXA14A; PackageDescription: Molded TSSOP, JEDEC, Exposed Pad, 5.0 x 4.4 x 0.9mm Body, 14 Lead, 0.65mm Pitch; RoHS: Y; PinCount: 14; High-Reliability: Y; Code_JEDEC: MO-153-ABT-1; ComponentLink1Description: Manufacturer URL; ComponentLink1URL: http://www.national.com/; ComponentLink2Description: LM3406 Datasheet; ComponentLink2URL: http://www.national.com/ds/LM/LM3406.pdf; ComponentLink3Description: LM3406 Web Page; ComponentLink3URL: http://www.national.com/pf/LM/LM3406.html; ComponentLink4Description: MXA14A Package Page; ComponentLink4URL: http://www.national.com/packaging/folders/mxa14a.html
footprint MXA14A_N (TSOP, 14-Leads, Body 5x4.4mm, Pitch 0.65mm, Thermal Pad, IPC Medium Density)
footprint MXA14A_L (TSOP, 14-Leads, Body 5x4.4mm, Pitch 0.65mm, Thermal Pad, IPC High Density)
footprint MXA14A_M (TSOP, 14-Leads, Body 5x4.4mm, Pitch 0.65mm, Thermal Pad, IPC Low Density)
pins: 1 SW (power), 2 SW (power), 3 BOOT, 4 NC, 5 VOUT, 6 CS (in), 7 GND (power), 8 DIM (in), 9 COMP, 10 RON (in), 11 VCC (power), 12 VINS (power), 13 VIN (power), 14 VIN (power), 15 DAP (power)

## LM3407MY/NOPB
designator U?
350 mA, Constant Current Output Floating Buck Switching Converter for High Power LEDs, 8-pin eMSOP, Pb-Free; PartNumber: LM3407MY/NOPB; Manufacturer: National Semiconductor; PackageTopMarking: ZXTT*STZB; PowerWise: Y; CompType: MiscPower; DatasheetVersion: Jan-2009; PackageVersion: revA, Nov-2003; PackageReference: MUY08A; PackageDescription: Molded Mini-SO, Exposed Pad, .118 x .118 x .034in Body, 8 Lead, .0256in Pitch; RoHS: Y; PinCount: 8; High-Reliability: Y; Code_JEDEC: MO-187-AA; ComponentLink1Description: Manufacturer URL; ComponentLink1URL: http://www.national.com/; ComponentLink2Description: LM3407 Datasheet; ComponentLink2URL: http://www.national.com/ds/LM/LM3407.pdf; ComponentLink3Description: LM3407 Web Page; ComponentLink3URL: http://www.national.com/pf/LM/LM3407.html; ComponentLink4Description: MUY08A Package Page; ComponentLink4URL: http://www.national.com/packaging/folders/muy08a.html
footprint MUY08A_N (TSOP, 8-Leads, Body 3x3mm, Pitch 0.65mm, Thermal Pad, IPC Medium Density)
footprint MUY08A_L (TSOP, 8-Leads, Body 3x3mm, Pitch 0.65mm, Thermal Pad, IPC High Density)
footprint MUY08A_M (TSOP, 8-Leads, Body 3x3mm, Pitch 0.65mm, Thermal Pad, IPC Low Density)
pins: 1 ISNS (in), 2 DIM (in), 3 EN (in), 4 FS (in), 5 VIN (power), 6 VCC (power), 7 GND (power), 8 LX (in), 9 EP (power)

## LM3407MYX/NOPB
designator U?
350 mA, Constant Current Output Floating Buck Switching Converter for High Power LEDs, 8-pin eMSOP, Pb-Free; PartNumber: LM3407MYX/NOPB; Manufacturer: National Semiconductor; PackageTopMarking: ZXTT*STZB; PowerWise: Y; CompType: MiscPower; DatasheetVersion: Jan-2008; PackageVersion: revA, Nov-2003; PackageReference: MUY08A; PackageDescription: Molded Mini-SO, Exposed Pad, .118 x .118 x .034in Body, 8 Lead, .0256in Pitch; RoHS: Y; PinCount: 8; High-Reliability: Y; Code_JEDEC: MO-187-AA; ComponentLink1Description: Manufacturer URL; ComponentLink1URL: http://www.national.com/; ComponentLink2Description: LM3407 Datasheet; ComponentLink2URL: http://www.national.com/ds/LM/LM3407.pdf; ComponentLink3Description: LM3407 Web Page; ComponentLink3URL: http://www.national.com/pf/LM/LM3407.html; ComponentLink4Description: MUY08A Package Page; ComponentLink4URL: http://www.national.com/packaging/folders/muy08a.html
footprint MUY08A_N (TSOP, 8-Leads, Body 3x3mm, Pitch 0.65mm, Thermal Pad, IPC Medium Density)
footprint MUY08A_L (TSOP, 8-Leads, Body 3x3mm, Pitch 0.65mm, Thermal Pad, IPC High Density)
footprint MUY08A_M (TSOP, 8-Leads, Body 3x3mm, Pitch 0.65mm, Thermal Pad, IPC Low Density)
pins: 1 ISNS (in), 2 DIM (in), 3 EN (in), 4 FS (in), 5 VIN (power), 6 VCC (power), 7 GND (power), 8 LX (in), 9 EP (power)

## LM3409HVMY/NOPB
designator U?
PFET Buck Controller for High Power LED Drives, 10-pin eMSOP, Pb-Free; PartNumber: LM3409HVMY/NOPB; Manufacturer: National Semiconductor; PackageTopMarking: ZXTT*SYHB; PowerWise: Y; CompType: MiscPower; DatasheetVersion: Jun-2009; PackageVersion: revA, May-2006; PackageReference: MUC10A; PackageDescription: Molded Mini-SO, Exposed Pad .118 x .118 x .034in Body, 10 Lead, .0197in Pitch; RoHS: Y; PinCount: 10; High-Reliability: Y; Code_JEDEC: MO-187-BAT; ComponentLink1Description: Manufacturer URL; ComponentLink1URL: http://www.national.com/; ComponentLink2Description: LM3409HV Datasheet; ComponentLink2URL: http://www.national.com/ds/LM/LM3409HV.pdf; ComponentLink3Description: LM3409HV Web Page; ComponentLink3URL: http://www.national.com/pf/LM/LM3409HV.html; ComponentLink4Description: MUC10A Package Page; ComponentLink4URL: http://www.national.com/packaging/folders/muc10a.html
footprint MUC10A_N (TSSOP, 10-Leads, Body 3x3mm, Pitch 0.5mm, Exposed Pad, IPC Medium Density)
footprint MUC10A_L (TSSOP, 10-Leads, Body 3x3mm, Pitch 0.5mm, Exposed Pad, IPC High Density)
footprint MUC10A_M (TSSOP, 10-Leads, Body 3x3mm, Pitch 0.5mm, Exposed Pad, IPC Low Density)
pins: 1 UVLO (in) "Input under-voltage lockout", 2 IADJ (in) "Analog LED current adjust", 3 EN (in) "Logic level enable / PWM dimming", 4 COFF (in) "Off-time programming", 5 GND (power) "Ground", 6 PGATE (out) "Gate drive", 7 CSN (in) "Negative current sense", 8 CSP (in) "Positive current sense", 9 VCC (power) "VIN- referenced linear regulator output", 10 VIN (power) "Input voltage", 11 DAP (power) "Thermal pad on bottom of IC"

## LM3409HVMYX/NOPB
designator U?
PFET Buck Controller for High Power LED Drives, 10-pin eMSOP, Pb-Free; PartNumber: LM3409HVMYX/NOPB; Manufacturer: National Semiconductor; PackageTopMarking: ZXTT*SYHB; PowerWise: Y; CompType: MiscPower; DatasheetVersion: Jun-2009; PackageVersion: revA, May-2006; PackageReference: MUC10A; PackageDescription: Molded Mini-SO, Exposed Pad .118 x .118 x .034in Body, 10 Lead, .0197in Pitch; RoHS: Y; PinCount: 10; High-Reliability: Y; Code_JEDEC: MO-187-BAT; ComponentLink1Description: Manufacturer URL; ComponentLink1URL: http://www.national.com/; ComponentLink2Description: LM3409HV Datasheet; ComponentLink2URL: http://www.national.com/ds/LM/LM3409HV.pdf; ComponentLink3Description: LM3409HV Web Page; ComponentLink3URL: http://www.national.com/pf/LM/LM3409HV.html; ComponentLink4Description: MUC10A Package Page; ComponentLink4URL: http://www.national.com/packaging/folders/muc10a.html
footprint MUC10A_N (TSSOP, 10-Leads, Body 3x3mm, Pitch 0.5mm, Exposed Pad, IPC Medium Density)
footprint MUC10A_L (TSSOP, 10-Leads, Body 3x3mm, Pitch 0.5mm, Exposed Pad, IPC High Density)
footprint MUC10A_M (TSSOP, 10-Leads, Body 3x3mm, Pitch 0.5mm, Exposed Pad, IPC Low Density)
pins: 1 UVLO (in) "Input under-voltage lockout", 2 IADJ (in) "Analog LED current adjust", 3 EN (in) "Logic level enable / PWM dimming", 4 COFF (in) "Off-time programming", 5 GND (power) "Ground", 6 PGATE (out) "Gate drive", 7 CSN (in) "Negative current sense", 8 CSP (in) "Positive current sense", 9 VCC (power) "VIN- referenced linear regulator output", 10 VIN (power) "Input voltage", 11 DAP (power) "Thermal pad on bottom of IC"

## LM3409MY/NOPB
designator U?
PFET Buck Controller for High Power LED Drives, 10-pin eMSOP, Pb-Free; PartNumber: LM3409MY/NOPB; Manufacturer: National Semiconductor; PackageTopMarking: ZXTT*SXFB; PowerWise: Y; CompType: MiscPower; DatasheetVersion: Apr-2010; PackageVersion: revA, May-2006; PackageReference: MUC10A; PackageDescription: Molded Mini-SO, Exposed Pad .118 x .118 x .034in Body, 10 Lead, .0197in Pitch; RoHS: Y; PinCount: 10; High-Reliability: Y; Code_JEDEC: MO-187-BAT; ComponentLink1Description: Manufacturer URL; ComponentLink1URL: http://www.national.com/; ComponentLink2Description: LM3409 Datasheet; ComponentLink2URL: http://www.national.com/ds/LM/LM3409.pdf; ComponentLink3Description: LM3409 Web Page; ComponentLink3URL: http://www.national.com/pf/LM/LM3409.html; ComponentLink4Description: MUC10A Package Page; ComponentLink4URL: http://www.national.com/packaging/folders/muc10a.html
footprint MUC10A_N (TSSOP, 10-Leads, Body 3x3mm, Pitch 0.5mm, Exposed Pad, IPC Medium Density)
footprint MUC10A_L (TSSOP, 10-Leads, Body 3x3mm, Pitch 0.5mm, Exposed Pad, IPC High Density)
footprint MUC10A_M (TSSOP, 10-Leads, Body 3x3mm, Pitch 0.5mm, Exposed Pad, IPC Low Density)
pins: 1 UVLO (in) "Input under-voltage lockout", 2 IADJ (in) "Analog LED current adjust", 3 EN (in) "Logic level enable / PWM dimming", 4 COFF (in) "Off-time programming", 5 GND (power) "Ground", 6 PGATE (out) "Gate drive", 7 CSN (in) "Negative current sense", 8 CSP (in) "Positive current sense", 9 VCC (power) "VIN- referenced linear regulator output", 10 VIN (power) "Input voltage", 11 DAP (power) "Thermal pad on bottom of IC"

## LM3409MYX/NOPB
designator U?
PFET Buck Controller for High Power LED Drives, 10-pin eMSOP, Pb-Free; PartNumber: LM3409MYX/NOPB; Manufacturer: National Semiconductor; PackageTopMarking: ZXTT*SXFB; PowerWise: Y; CompType: MiscPower; DatasheetVersion: Apr-2010; PackageVersion: revA, May-2006; PackageReference: MUC10A; PackageDescription: Molded Mini-SO, Exposed Pad .118 x .118 x .034in Body, 10 Lead, .0197in Pitch; RoHS: Y; PinCount: 10; High-Reliability: Y; Code_JEDEC: MO-187-BAT; ComponentLink1Description: Manufacturer URL; ComponentLink1URL: http://www.national.com/; ComponentLink2Description: LM3409 Datasheet; ComponentLink2URL: http://www.national.com/ds/LM/LM3409.pdf; ComponentLink3Description: LM3409 Web Page; ComponentLink3URL: http://www.national.com/pf/LM/LM3409.html; ComponentLink4Description: MUC10A Package Page; ComponentLink4URL: http://www.national.com/packaging/folders/muc10a.html
footprint MUC10A_N (TSSOP, 10-Leads, Body 3x3mm, Pitch 0.5mm, Exposed Pad, IPC Medium Density)
footprint MUC10A_L (TSSOP, 10-Leads, Body 3x3mm, Pitch 0.5mm, Exposed Pad, IPC High Density)
footprint MUC10A_M (TSSOP, 10-Leads, Body 3x3mm, Pitch 0.5mm, Exposed Pad, IPC Low Density)
pins: 1 UVLO (in) "Input under-voltage lockout", 2 IADJ (in) "Analog LED current adjust", 3 EN (in) "Logic level enable / PWM dimming", 4 COFF (in) "Off-time programming", 5 GND (power) "Ground", 6 PGATE (out) "Gate drive", 7 CSN (in) "Negative current sense", 8 CSP (in) "Positive current sense", 9 VCC (power) "VIN- referenced linear regulator output", 10 VIN (power) "Input voltage", 11 DAP (power) "Thermal pad on bottom of IC"